# EAGLE library part 418311170803 (library Wurth_Elektronik_Electromechanic_Switch_rev15d)
WS-PT 2.54 mm piano type compact SMD Dip Switch with flat actuator, 3 Pole
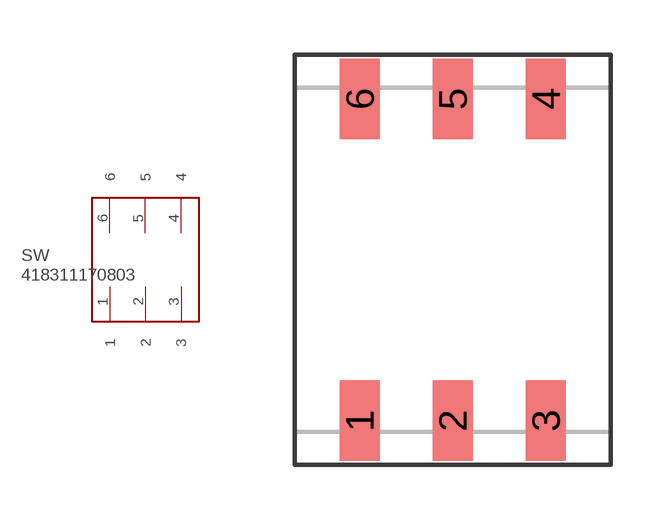
[diagram p126: symbol with the pads of 418311170803; footprint 418311170803]

Designator prefix SW

## 418311170803  [418311170803]
1  1
2  2
3  3
4  4
5  5
6  6

## Footprint 418311170803 (pad centres in mm)
WS-PT 2.54 mm piano type compact SMD Dip Switch with flat actuator, 3 Pole
smd 1.1 x 2.2: 1 -2.54,-4.4; 2 0,-4.4; 3 2.54,-4.4; 4 2.54,4.4; 5 0,4.4; 6 -2.54,4.4